# EAGLE library part OPA2388 (library Bauteile)
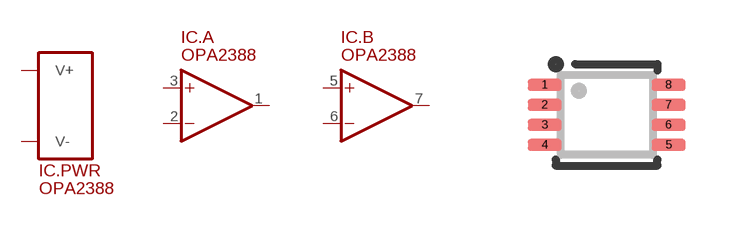
[diagram p35: symbol with the pads of VSSOP8; footprint VSSOP8]

Designator prefix IC; gates .PWR=SUPPLY_V+/V- .A=OP .B=OP

## OPA2388  [VSSOP8]
1  .A:OUT
2  .A:-IN
3  .A:+IN
4  .PWR:V-
5  .B:+IN
6  .B:-IN
7  .B:OUT
8  .PWR:V+

## Footprint VSSOP8 (pad centres in mm)
smd 0.85 x 0.3: 1 -1.55,0.75; 2 -1.55,0.25; 3 -1.55,-0.25; 4 -1.55,-0.75; 5 1.55,-0.75; 6 1.55,-0.25; 7 1.55,0.25; 8 1.55,0.75